# Altium schematic symbol library SCH - MCU - ATMEGA - MICROCHIP ATMEGA649P-AU TQFP64.SchLib: 1 symbol
Pins are listed as number, name and electrical type; pins without a type are passive.

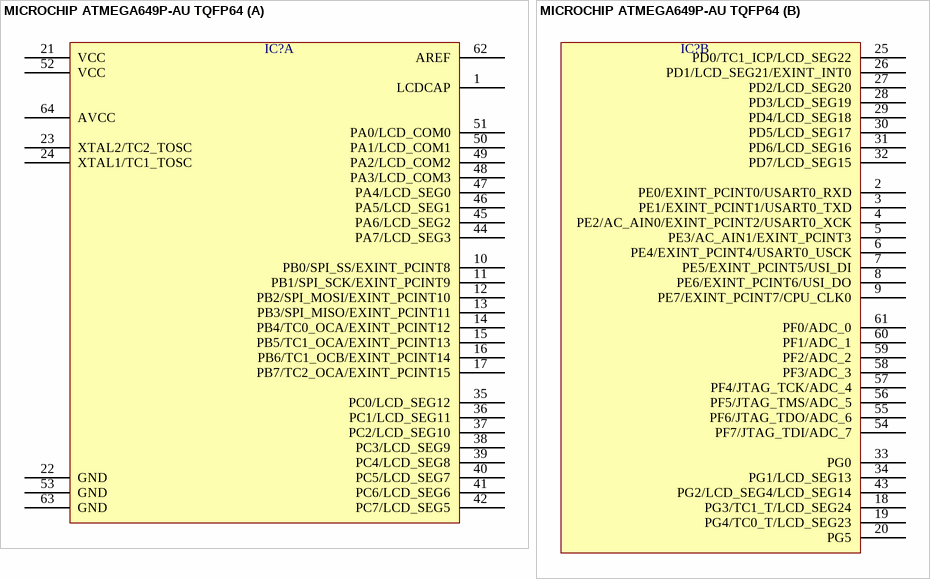
[diagram p0: symbol MICROCHIP ATMEGA649P-AU TQFP64]

## MICROCHIP ATMEGA649P-AU TQFP64
designator IC?  (value not drawn)
part A pins: 1 LCDCAP, 10 PB0/SPI_SS/EXINT_PCINT8, 11 PB1/SPI_SCK/EXINT_PCINT9, 12 PB2/SPI_MOSI/EXINT_PCINT10, 13 PB3/SPI_MISO/EXINT_PCINT11, 14 PB4/TC0_OCA/EXINT_PCINT12, 15 PB5/TC1_OCA/EXINT_PCINT13, 16 PB6/TC1_OCB/EXINT_PCINT14, 17 PB7/TC2_OCA/EXINT_PCINT15, 21 VCC, 22 GND, 23 XTAL2/TC2_TOSC, 24 XTAL1/TC1_TOSC, 35 PC0/LCD_SEG12, 36 PC1/LCD_SEG11, 37 PC2/LCD_SEG10, 38 PC3/LCD_SEG9, 39 PC4/LCD_SEG8, 40 PC5/LCD_SEG7, 41 PC6/LCD_SEG6, 42 PC7/LCD_SEG5, 44 PA7/LCD_SEG3, 45 PA6/LCD_SEG2, 46 PA5/LCD_SEG1, 47 PA4/LCD_SEG0, 48 PA3/LCD_COM3, 49 PA2/LCD_COM2, 50 PA1/LCD_COM1, 51 PA0/LCD_COM0, 52 VCC, 53 GND, 62 AREF, 63 GND, 64 AVCC
part B pins: 2 PE0/EXINT_PCINT0/USART0_RXD, 3 PE1/EXINT_PCINT1/USART0_TXD, 4 PE2/AC_AIN0/EXINT_PCINT2/USART0_XCK, 5 PE3/AC_AIN1/EXINT_PCINT3, 6 PE4/EXINT_PCINT4/USART0_USCK, 7 PE5/EXINT_PCINT5/USI_DI, 8 PE6/EXINT_PCINT6/USI_DO, 9 PE7/EXINT_PCINT7/CPU_CLK0, 18 PG3/TC1_T/LCD_SEG24, 19 PG4/TC0_T/LCD_SEG23, 20 PG5, 25 PD0/TC1_ICP/LCD_SEG22, 26 PD1/LCD_SEG21/EXINT_INT0, 27 PD2/LCD_SEG20, 28 PD3/LCD_SEG19, 29 PD4/LCD_SEG18, 30 PD5/LCD_SEG17, 31 PD6/LCD_SEG16, 32 PD7/LCD_SEG15, 33 PG0, 34 PG1/LCD_SEG13, 43 PG2/LCD_SEG4/LCD_SEG14, 54 PF7/JTAG_TDI/ADC_7, 55 PF6/JTAG_TDO/ADC_6, 56 PF5/JTAG_TMS/ADC_5, 57 PF4/JTAG_TCK/ADC_4, 58 PF3/ADC_3, 59 PF2/ADC_2, 60 PF1/ADC_1, 61 PF0/ADC_0